# EAGLE library part JOYSTICK (library JOYSTICK)
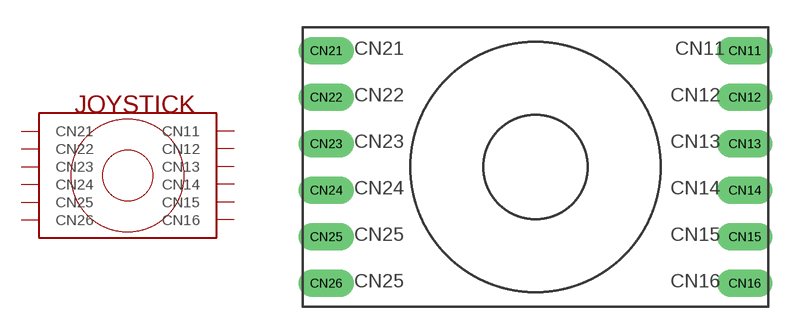
[diagram p0: symbol with the pads of JOYSTICK; footprint JOYSTICK]

Designator prefix -

## JOYSTICK  [JOYSTICK]
CN11  CN11
CN12  CN12
CN13  CN13
CN14  CN14
CN15  CN15
CN16  CN16
CN21  CN21
CN22  CN22
CN23  CN23
CN24  CN24
CN25  CN25
CN26  CN26

## Footprint JOYSTICK (pad centres in mm)
drill 1 long: CN11 19.05,2.54; CN12 19.05,0; CN13 19.05,-2.54; CN14 19.05,-5.08; CN15 19.05,-7.62; CN16 19.05,-10.16; CN21 -3.81,2.54; CN22 -3.81,0; CN23 -3.81,-2.54; CN24 -3.81,-5.08; CN25 -3.81,-7.62; CN26 -3.81,-10.16